# EAGLE library part 93CXX (library TABOR K1)
3-wire serial EEPROM
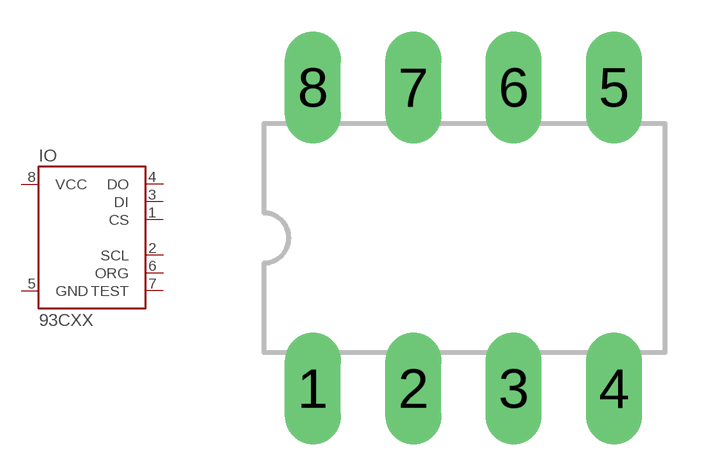
[diagram p33: symbol with the pads of DIL08; footprint DIL08]

Designator prefix IO

## 93CXXP  [DIL08]
1  CS  in
2  SCL
3  DI  in
4  DO  out
5  GND  pwr
6  ORG  in
7  TEST  in
8  VCC  pwr

## Footprint DIL08 (pad centres in mm)
Púzdro DIL08 : diera s pokovenim = 0,6 mm, vrtanie = 0,8mm
drill 0.813 pad 1.422 long: 1 -3.81,-3.81; 2 -1.27,-3.81; 3 1.27,-3.81; 4 3.81,-3.81; 5 3.81,3.81; 6 1.27,3.81; 7 -1.27,3.81; 8 -3.81,3.81